# EAGLE library part ZS-042_RTC_6+4-PIN_FEMALE_HEADER (library myLib-01-Headers)
Header for the ZS-042 RTC six+four pin module. Based on DS3231 Male Board measures 38x22 mm
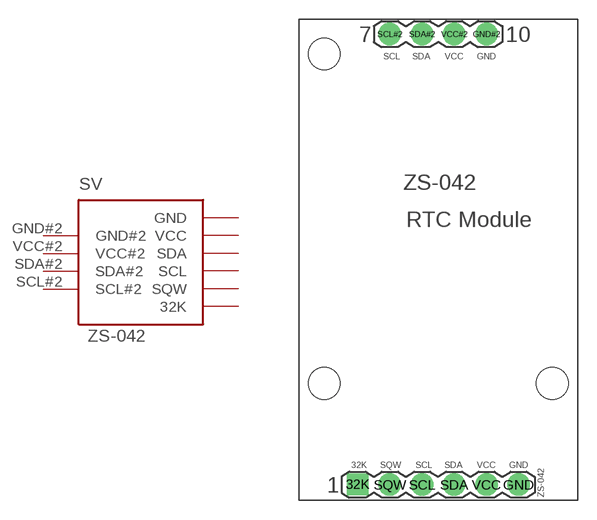
[diagram p10: symbol with the pads of ZS-042_RTC_6+4-PIN_FEMALE_HEADER_W_MOUNT_HOLES; footprint ZS-042_RTC_6+4-PIN_FEMALE_HEADER_W_MOUNT_HOLES]

Designator prefix SV

## ZS-042_RTC_6+4-PIN_FEMALE_HEADER  [ZS-042_RTC_6+4-PIN_FEMALE_HEADER_W_MOUNT_HOLES]
32K  32K  pas
GND  GND  pas
GND#2  GND#2
SCL  SCL  pas
SCL#2  SCL#2
SDA  SDA  pas
SDA#2  SDA#2
SQW  SQW  pas
VCC  VCC  pas
VCC#2  VCC#2

## Footprint ZS-042_RTC_6+4-PIN_FEMALE_HEADER_W_MOUNT_HOLES (pad centres in mm)
PIN HEADER
drill 1.016 pad 1.676 square: 32K 0,0
drill 1.016 pad 1.778: GND 12.7,0; GND#2 10.16,35.56; SCL 5.08,0; SCL#2 2.54,35.56; SDA 7.62,0; SDA#2 5.08,35.56; SQW 2.54,0; VCC 10.16,0; VCC#2 7.62,35.56
hole 2.5 at -2.65,8
hole 2.5 at 15.35,8
hole 2.5 at -2.65,34